# EAGLE library part ESP-07 (library Bits_library_eagle 9x)
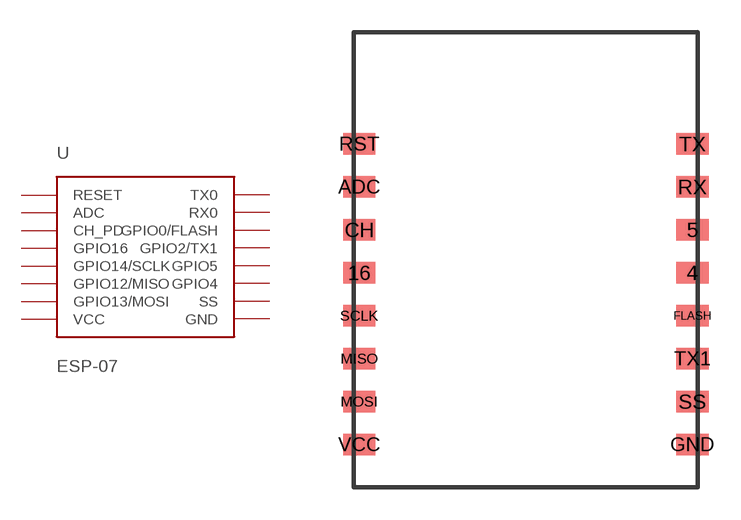
[diagram p18: symbol with the pads of ESP-07; footprint ESP-07]

Designator prefix U

## ESP-07  [ESP-07]
4  GPIO4
5  GPIO5
16  GPIO16
ADC  ADC
CH  CH_PD
FLASH  GPIO0/FLASH
GND  GND
MISO  GPIO12/MISO
MOSI  GPIO13/MOSI
RST  RESET
RX  RX0
SCLK  GPIO14/SCLK
SS  SS
TX  TX0
TX1  GPIO2/TX1
VCC  VCC

## Footprint ESP-07 (pad centres in mm)
smd 1.5 x 1: 4 7.75,1; 5 7.75,3; 16 -7.75,1; ADC -7.75,5; CH -7.75,3; FLASH 7.75,-1; GND 7.75,-7; MISO -7.75,-3; MOSI -7.75,-5; RST -7.75,7; RX 7.75,5; SCLK -7.75,-1; SS 7.75,-5; TX 7.75,7; TX1 7.75,-3; VCC -7.75,-7